# Altium footprint library STM_lib.PcbLib: 2 footprints
Each footprint in its own frame and in the unit in brackets; x right, y up, seen from the top. Pads: shape width x height; smd on the part's side, far side on the other; paste and mask are expansions set on the pad; w line width, h text height; cw(c..) or ccw(c..) is an arc to the next point about the centre after c.
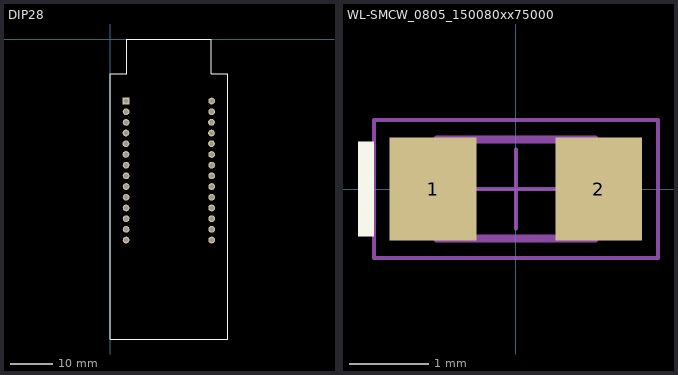
[diagram p0: the footprints below, top view; thin cyan lines are the x and y axes]

## DIP28 [mm]
pads (28):
  rect 1.6x1.6 hole 1: 1(3.81,-14.732)
  round 1.6 hole 1: 2(3.81,-17.272) 3(3.81,-19.812) 4(3.772,-22.328) 5(3.772,-24.889) 6(3.772,-27.408) 7(3.81,-29.972) 8(3.81,-32.512) 9(3.81,-35.052) 10(3.81,-37.592) 11(3.81,-40.132) 12(3.81,-42.672) 13(3.81,-45.212) 14(3.81,-47.752) 15(24.13,-14.732) 16(24.13,-17.272) 17(24.092,-19.788) 18(24.092,-22.349) 19(24.092,-24.868) 20(24.13,-27.432) 21(24.13,-29.972) 22(24.13,-32.512) 23(24.13,-35.052) 24(24.13,-37.592) 25(24.13,-40.132) 26(24.13,-42.672) 27(24.13,-45.212) 28(24.13,-47.752)
Top Overlay:
  lines w0.254: 0,-71.26 0,-8.26 3.932,-8.26 3.932,0 24.068,0 24.068,-8.26 28,-8.26 28,-71.26 0,-71.26

## WL-SMCW_0805_150080xx75000 [mm] "SMD Mono-color Chip LED, body 2.0x1.25mm"
height 0.7
pads (2):
  rect 1.1x1.3 smd: 1(-1.05,0) 2(1.05,0)
Top Overlay:
  rectangle: -2,-0.6 -1.8,0.6
Top Component Outline:
  rectangle: -1,-0.625 -0.7,0.625
  lines w0.1: -1,-0.625 1,-0.625 1,0.625 -1,0.625 -1,-0.625
Top Courtyard:
  lines w0.05: -1.8,-0.875 1.8,-0.875 1.8,0.875 -1.8,0.875 -1.8,-0.875
Top Component Center:
  lines w0.05: -0.5,0 0.5,0 ; 0,-0.5 0,0.5
Top Designator:
  text ".Designator" at -2.499,-0.167 h0.5
3D body "150080xxS75000.stp": height 0.7, standoff 0, extent -1,-0.625 1,0.625